# Altium schematic symbol library MC74VHC1GT125D1G.Schlib: 1 symbol
Pins are listed as number, name and electrical type; pins without a type are passive.

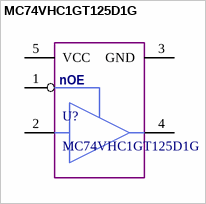
[diagram p0: symbol MC74VHC1GT125D1G]

## MC74VHC1GT125D1G
designator U?
pins: 1 ~{OE}, 2, 3 GND, 4 OutY, 5 VCC
text: nOE